# Altium footprint library PANASONIC_CAP_CRIMP_B_12p6_6p0_15p7.PcbLib: 1 footprints
Each footprint in its own frame and in the unit in brackets; x right, y up, seen from the top. Pads: shape width x height; smd on the part's side, far side on the other; paste and mask are expansions set on the pad; w line width, h text height; cw(c..) or ccw(c..) is an arc to the next point about the centre after c.
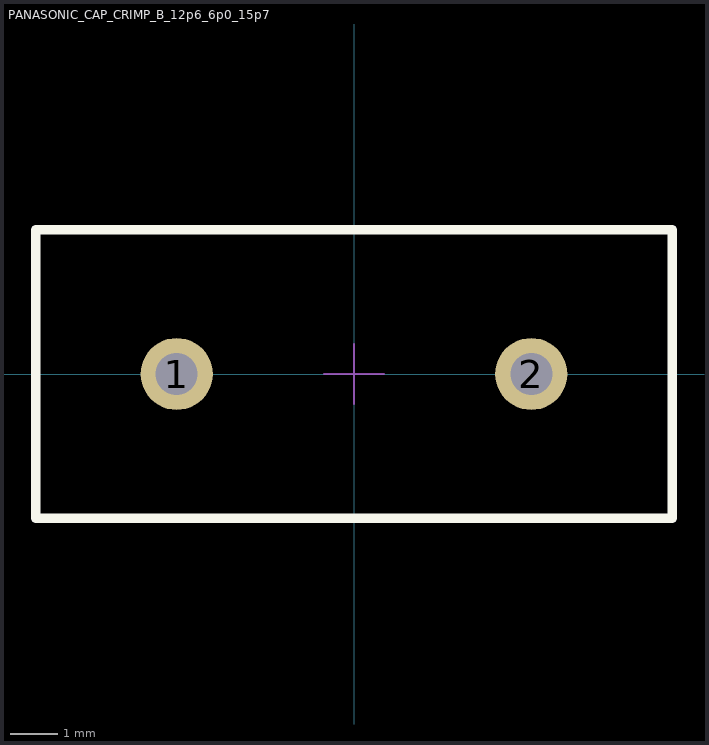
[diagram p0: the footprint, top view; thin cyan lines are the x and y axes]

## PANASONIC_CAP_CRIMP_B_12p6_6p0_15p7 [mil]
pads (2):
  round 60 hole 35: 1(-147.64,0) 2(147.64,0)
Top Overlay:
  lines w7.87: -265,-120 -265,120 265,120 265,-120 -265,-120
Mechanical 15:
  lines w1.97: -25,0 25,0 ; 0,-25 0,25 ; -265,-120 -265,120 265,120 265,-120 -265,-120
3D body: height 618.11, standoff 0, extent -260,-115 260,115